# EAGLE library part RAY-3 (library ic)
RAY-6U: 23dBm mixer (Mini-Circuits) 70kHz-200MHz LO, 0-200MHz IF
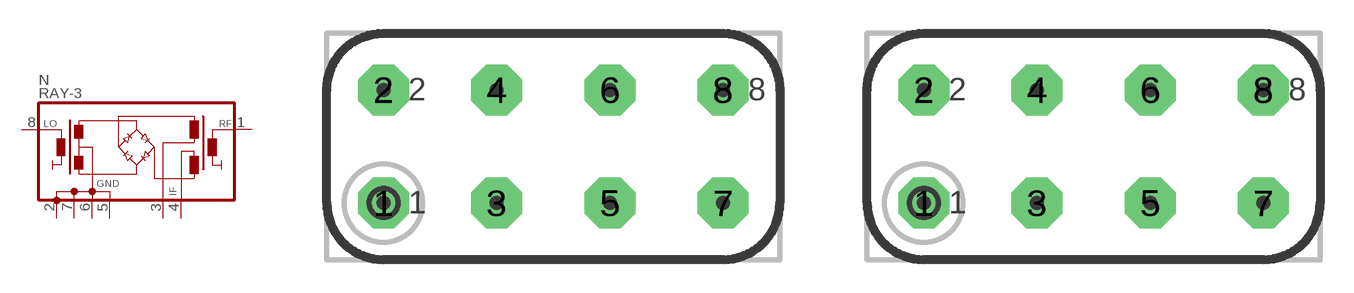
[diagram p128: symbol with the pads of MC-A01N; footprints MC-A01N, MC-A01G]

Designator prefix N

## RAY-3  [MC-A01N]
1  RF
2  CASE
3  IF1
4  IF2
5  GND
6  GND
7  GND
8  LO

## RAY-3G  [MC-A01G]
Pads as for MC-A01N

## Footprint MC-A01N (pad centres in mm)
Mini-Circuits A01 Metal case (20*10mm), 8 pins, Broken top plane
drill 0.991 pad 2.286 octagon: 1 -7.62,-2.54; 2 -7.62,2.54; 3 -2.54,-2.54; 4 -2.54,2.54; 5 2.54,-2.54; 6 2.54,2.54; 7 7.62,-2.54; 8 7.62,2.54

## Footprint MC-A01G (pad centres in mm)
Mini-Circuits A01 Metal case (20*10mm), 8 pins
drill 0.991 pad 2.286 octagon: 1 -7.62,-2.54; 2 -7.62,2.54; 3 -2.54,-2.54; 4 -2.54,2.54; 5 2.54,-2.54; 6 2.54,2.54; 7 7.62,-2.54; 8 7.62,2.54